# EAGLE library part ADS1299_BREAKOUT (library Ads1299Breakout)
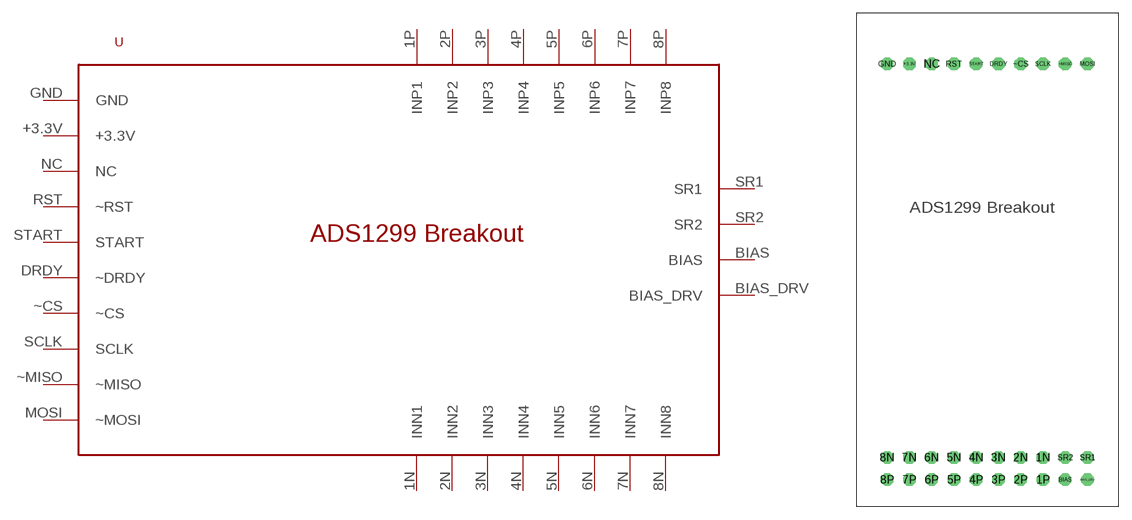
[diagram p0: symbol with the pads of ADS1299_BREAKOUT; footprint ADS1299_BREAKOUT]

Designator prefix -

## ADS1299_BREAKOUTADS1299_BREAKOUT  [ADS1299_BREAKOUT]
1N  INN1
1P  INP1
2N  INN2
2P  INP2
3N  INN3
3P  INP3
4N  INN4
4P  INP4
5N  INN5
5P  INP5
6N  INN6
6P  INP6
7N  INN7
7P  INP7
8N  INN8
8P  INP8
+3.3V  +3.3V
BIAS  BIAS
BIAS_DRV  BIAS_DRV
DRDY  ~DRDY
GND  GND
MOSI  ~MOSI
NC  NC
RST  ~RST
SCLK  SCLK
SR1  SR1
SR2  SR2
START  START
~CS  ~CS
~MISO  ~MISO

## Footprint ADS1299_BREAKOUT (pad centres in mm)
drill 0.914 octagon: 1N 5.08,-17.78; 1P 5.08,-20.32; 2N 2.54,-17.78; 2P 2.54,-20.32; 3N 0,-17.78; 3P 0,-20.32; 4N -2.54,-17.78; 4P -2.54,-20.32; 5N -5.08,-17.78; 5P -5.08,-20.32; 6N -7.62,-17.78; 6P -7.62,-20.32; 7N -10.16,-17.78; 7P -10.16,-20.32; 8N -12.7,-17.78; 8P -12.7,-20.32; +3.3V -10.16,27.178; BIAS 7.62,-20.32; BIAS_DRV 10.16,-20.32; DRDY 0,27.178; GND -12.7,27.178; MOSI 10.16,27.178; NC -7.62,27.178; RST -5.08,27.178; SCLK 5.08,27.178; SR1 10.16,-17.78; SR2 7.62,-17.78; START -2.54,27.178; ~CS 2.54,27.178; ~MISO 7.62,27.178